# Altium schematic symbol library ME54BS01-1Y15TI.Schlib: 1 symbol
Pins are listed as number, name and electrical type; pins without a type are passive.

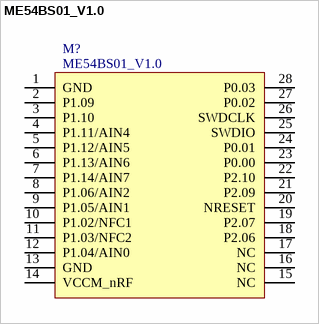
[diagram p0: symbol ME54BS01_V1.0]

## ME54BS01_V1.0
designator M?
ME54BS01_GBR_V1.0，ME54BS01_V1.0，23.2*17.4*0.6mm，109.0*137.9*0.6mm，5*5 有工艺边，FR-4 双面板，1OZ，沉金，过孔塞孔工艺，黑油白字，全测
pins: 1 GND, 2 P1.09, 3 P1.10, 4 P1.11/AIN4, 5 P1.12/AIN5, 6 P1.13/AIN6, 7 P1.14/AIN7, 8 P1.06/AIN2, 9 P1.05/AIN1, 10 P1.02/NFC1, 11 P1.03/NFC2, 12 P1.04/AIN0, 13 GND, 14 VCCM_nRF, 15 NC, 16 NC, 17 NC, 18 P2.06, 19 P2.07, 20 NRESET, 21 P2.09, 22 P2.10, 23 P0.00, 24 P0.01, 25 SWDIO, 26 SWDCLK, 27 P0.02, 28 P0.03